# Altium footprint library IPC-7355 QFP_Rect_80P_Side_M.PcbLib: 1 footprints
Each footprint in its own frame and in the unit in brackets; x right, y up, seen from the top. Pads: shape width x height; smd on the part's side, far side on the other; paste and mask are expansions set on the pad; w line width, h text height; cw(c..) or ccw(c..) is an arc to the next point about the centre after c.
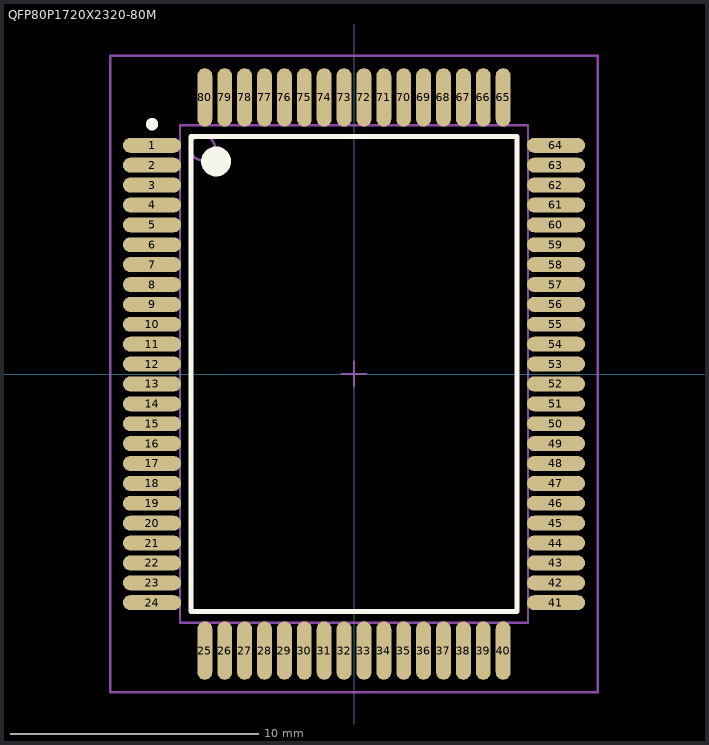
[diagram p0: the footprint, top view; thin cyan lines are the x and y axes]

## QFP80P1720X2320-80M [mm] "QFP, 80-Leads, Body 20x14mm, Pitch 0.8mm, IPC Low Density"
height 2.45
pads (80):
  oval 2.35x0.6 smd: 1(-8.125,9.2) 2(-8.125,8.4) 3(-8.125,7.6) 4(-8.125,6.8) 5(-8.125,6) 6(-8.125,5.2) 7(-8.125,4.4) 8(-8.125,3.6) 9(-8.125,2.8) 10(-8.125,2) 11(-8.125,1.2) 12(-8.125,0.4) 13(-8.125,-0.4) 14(-8.125,-1.2) 15(-8.125,-2) 16(-8.125,-2.8) 17(-8.125,-3.6) 18(-8.125,-4.4) 19(-8.125,-5.2) 20(-8.125,-6) 21(-8.125,-6.8) 22(-8.125,-7.6) 23(-8.125,-8.4) 24(-8.125,-9.2) 41(8.125,-9.2) 42(8.125,-8.4) 43(8.125,-7.6) 44(8.125,-6.8) 45(8.125,-6) 46(8.125,-5.2) 47(8.125,-4.4) 48(8.125,-3.6) 49(8.125,-2.8) 50(8.125,-2) 51(8.125,-1.2) 52(8.125,-0.4) 53(8.125,0.4) 54(8.125,1.2) 55(8.125,2) 56(8.125,2.8) 57(8.125,3.6) 58(8.125,4.4) 59(8.125,5.2) 60(8.125,6) 61(8.125,6.8) 62(8.125,7.6) 63(8.125,8.4) 64(8.125,9.2)
  oval 0.6x2.35 smd: 25(-6,-11.125) 26(-5.2,-11.125) 27(-4.4,-11.125) 28(-3.6,-11.125) 29(-2.8,-11.125) 30(-2,-11.125) 31(-1.2,-11.125) 32(-0.4,-11.125) 33(0.4,-11.125) 34(1.2,-11.125) 35(2,-11.125) 36(2.8,-11.125) 37(3.6,-11.125) 38(4.4,-11.125) 39(5.2,-11.125) 40(6,-11.125) 65(6,11.125) 66(5.2,11.125) 67(4.4,11.125) 68(3.6,11.125) 69(2.8,11.125) 70(2,11.125) 71(1.2,11.125) 72(0.4,11.125) 73(-0.4,11.125) 74(-1.2,11.125) 75(-2,11.125) 76(-2.8,11.125) 77(-3.6,11.125) 78(-4.4,11.125) 79(-5.2,11.125) 80(-6,11.125)
Top Overlay:
  circle w0.25: c-8.125,10.05 r0.125
  circle w0.6: c-5.55,8.55 r0.3
  lines w0.2: -6.55,-9.55 -6.55,9.55 6.55,9.55 6.55,-9.55 -6.55,-9.55
Mechanical 13:
  circle w0.1: c-6.1,9.1 r0.5
  lines w0.1: -7,-10 -7,10 7,10 7,-10 -7,-10
Mechanical 15:
  lines w0.1: -0.5,0 0.5,0 ; 0,-0.5 0,0.5 ; -9.8,-12.8 -9.8,12.8 9.8,12.8 9.8,-12.8 -9.8,-12.8
3D body: height 2.45, standoff 0, extent -7,-10 7,10